# Altium schematic symbol library IC Timer.SchLib: 1 symbol
Pins are listed as number, name and electrical type; pins without a type are passive.

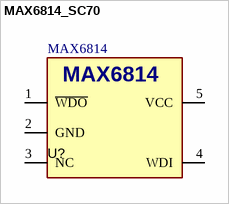
[diagram p0: symbol MAX6814_SC70]

## MAX6814_SC70
designator U?, comment MAX6814
Watchdog Timer Circuit, CMOS; PARAM: 500kHz, 180µA; PARAM2: 2~18v; MANF_P#: ICM7555CD/01,118, ICM7555IPAZ, ICM7555IPA+; MANF: NXP, Intersil, MAXIM; VALUE: MAX6814
footprint SOT353_5 (SC-88A, SC70-5, SOT-353, DCK (TI), 0.65mm pitch 2X1.3mm body)
pins: 1 ~{WDO}, 2 GND, 3 NC, 4 WDI, 5 VCC